# EAGLE library part AR1020 (library ar1020)
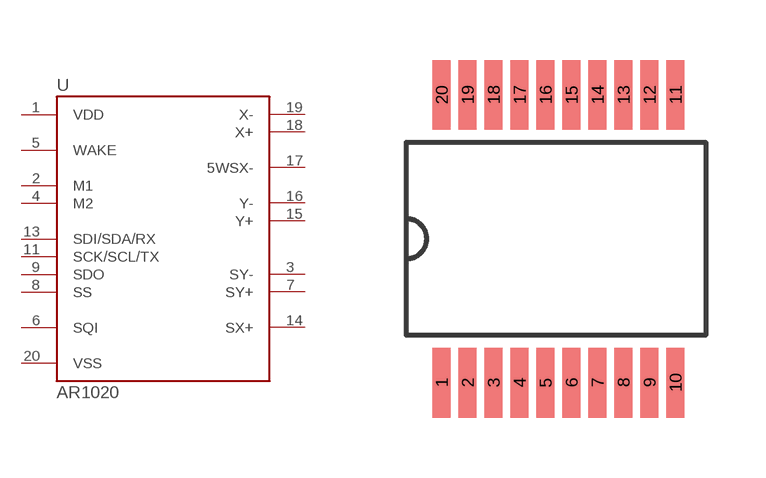
[diagram p0: symbol with the pads of SSOP20; footprint SSOP20]

Designator prefix U

## AR1020  [SSOP20]
1  VDD
2  M1
3  SY-
4  M2
5  WAKE
6  SQI
7  SY+
8  SS
9  SDO
11  SCK/SCL/TX
13  SDI/SDA/RX
14  SX+
15  Y+
16  Y-
17  5WSX-
18  X+
19  X-
20  VSS

## Footprint SSOP20 (pad centres in mm)
smd 0.45 x 1.75: 1 -2.925,-3.6; 2 -2.275,-3.6; 3 -1.625,-3.6; 4 -0.975,-3.6; 5 -0.325,-3.6; 6 0.325,-3.6; 7 0.975,-3.6; 8 1.625,-3.6; 9 2.275,-3.6; 10 2.925,-3.6; 11 2.925,3.6; 12 2.275,3.6; 13 1.625,3.6; 14 0.975,3.6; 15 0.325,3.6; 16 -0.325,3.6; 17 -0.975,3.6; 18 -1.625,3.6; 19 -2.275,3.6; 20 -2.925,3.6